# Altium schematic symbol library MainLibrary.SchLib: 167 symbols (part 2 of 2)
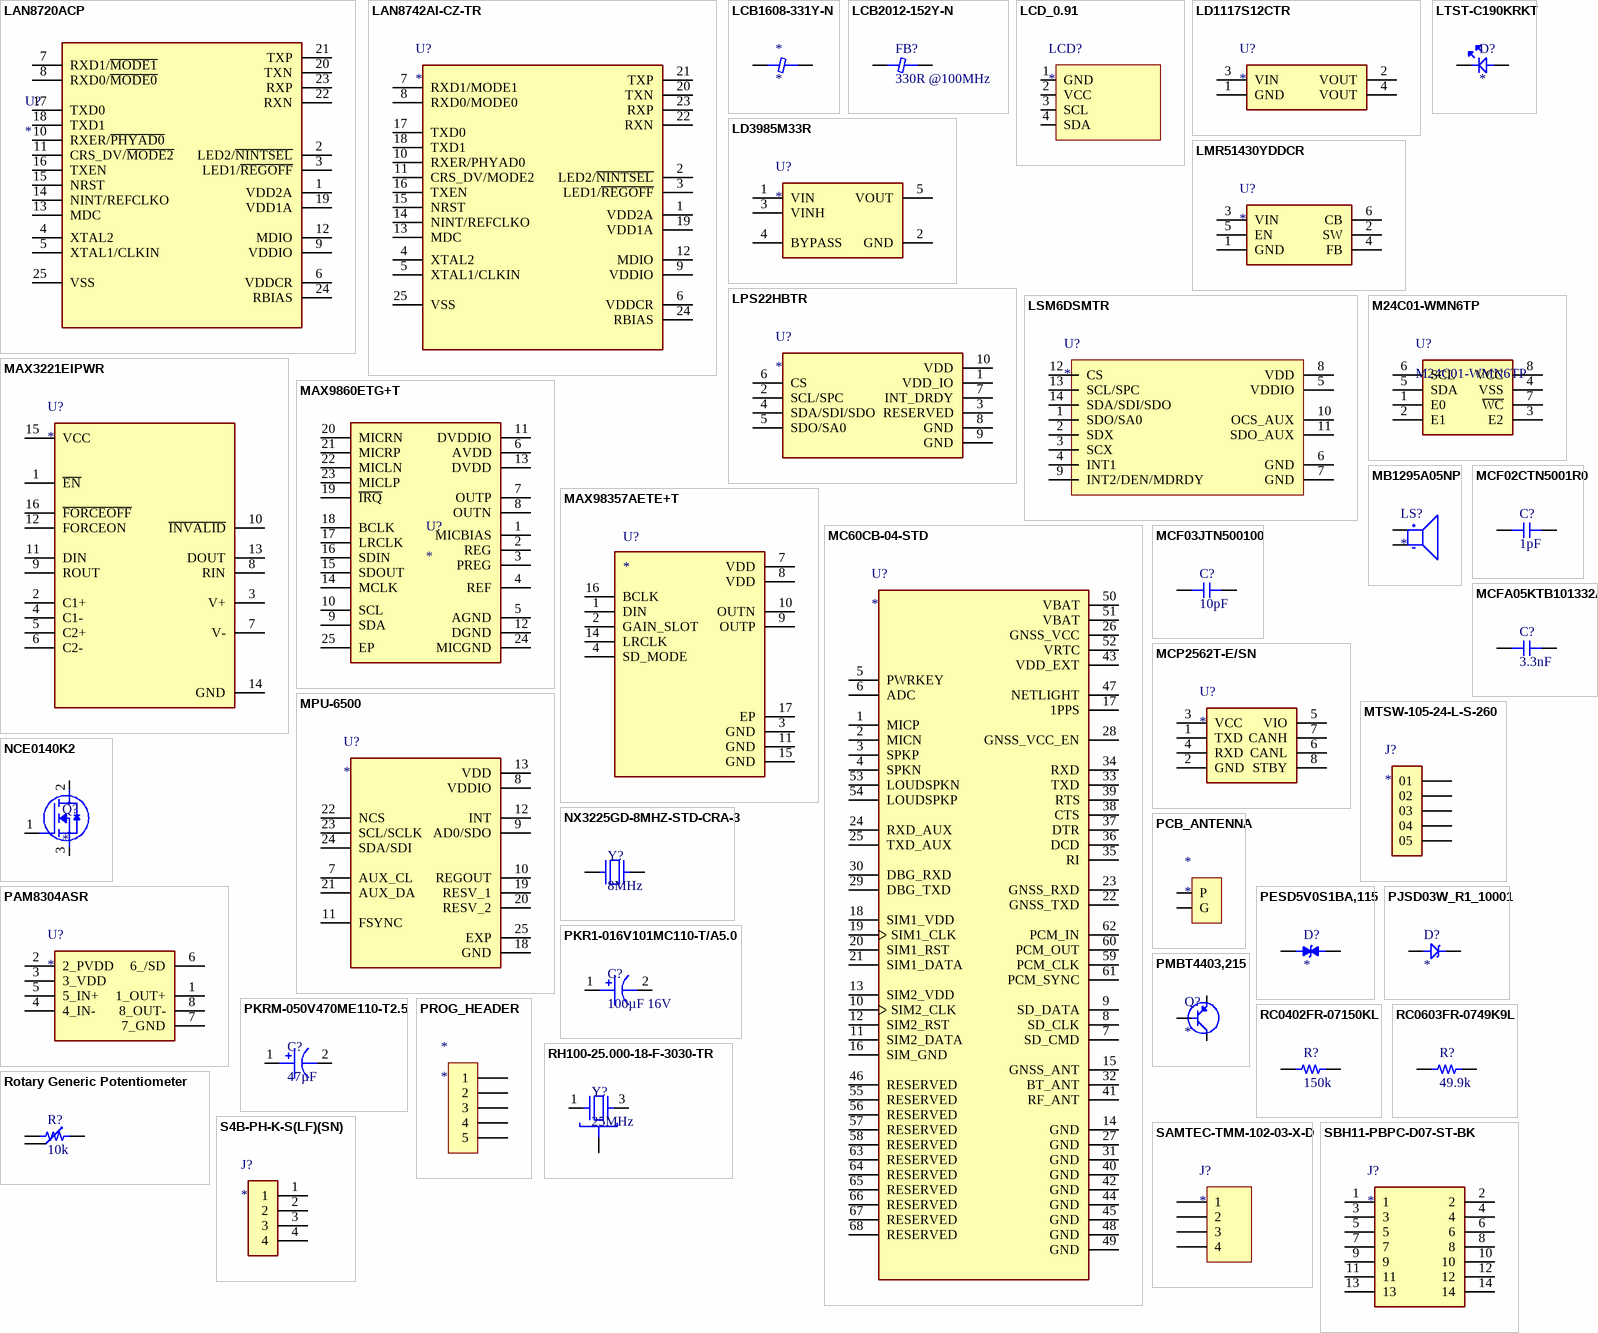
[diagram p5: symbols LAN8720ACP to SBH11-PBPC-D07-ST-BK]

## RC0603FR-0749K9L
designator R?, comment 49.9k
ES.(1608) 0603 49.9K Ohms 1% 1/10W 100PPM SMT
footprint 0603_RES
pins: 1, 2

## RH100-25.000-18-F-3030-TR
designator Y?, comment 25MHz
25 MHz 30ppm Crystal 18pF 60 Ohms 4-SMD, No Lead (3.20mm x 2.50mm); MF: Raltron Electronics; MP: RH100-25.000-18-F-3030-TR; SnapEDA_Link: https://www.snapeda.com/parts/RH100-25.000-18-F-3030-TR/Raltron+Electronics/view-part/?ref=snap; Package: None; Value: *; Check_prices: https://www.snapeda.com/parts/RH100-25.000-18-F-3030-TR/Raltron+Electronics/view-part/?ref=eda
footprint XTAL_RH100-25.000-18-F-3030-TR
pins: 1, 2 GND (power), 3, 4 GND (power)

## Rotary Generic Potentiometer
designator R?, comment 10k
10k DIP
footprint POT_ROTARY
pins: 1, 2, 3

## S4B-PH-K-S(LF)(SN)
designator J?
Connector Header Through Hole, Right Angle 4 position 0.079 _2.00mm_; MP: S4B-PH-K-S_LF__SN_; MF: JST Sales; Price: None; Package: None; Value: *; Availability: Unavailable; SnapEDA_Link: https://www.snapeda.com/parts/S4B-PH-K-S%28LF%29%28SN%29/JST%20Sales%20America%20Inc./view-part/591324/?ref=snap
footprint JST_S4B-PH-K-S(LF)(SN)
pins: 1, 2, 3, 4

## SAMTEC-TMM-102-03-X-D
designator J?
CONN HEADER VERT 4POS 2MM; MP: SAMTEC-TMM-102-03-X-D; Package: None; Price: None; Value: *; Availability: Unavailable
footprint SAMTEC-TMM-102-03-X-D
pins: 1, 2, 3, 4

## SBH11-PBPC-D07-ST-BK
designator J?
Connector Header Through Hole 14 position 0.100 (2.54mm); MP: SBH11-PBPC-D07-ST-BK; MF: Sullins Connector; Value: *; Check_prices: https://www.snapeda.com/parts/SBH11-PBPC-D07-ST-BK/Sullins%20Connector%20Solutions/view-part/229418/?ref=eda; Availability: Warning; Price: None; Package: None; Purchase-URL: https://pricing.snapeda.com/search/part/SBH11-PBPC-D07-ST-BK/?ref=eda; SnapEDA_Link: https://www.snapeda.com/parts/SBH11-PBPC-D07-ST-BK/Sullins%20Connector%20Solutions/view-part/229418/?ref=snap
footprint SULLINS_SBH11-PBPC-D07-ST-BK
pins: 1, 2, 3, 4, 5, 6, 7, 8, 9, 10, 11, 12, 13, 14

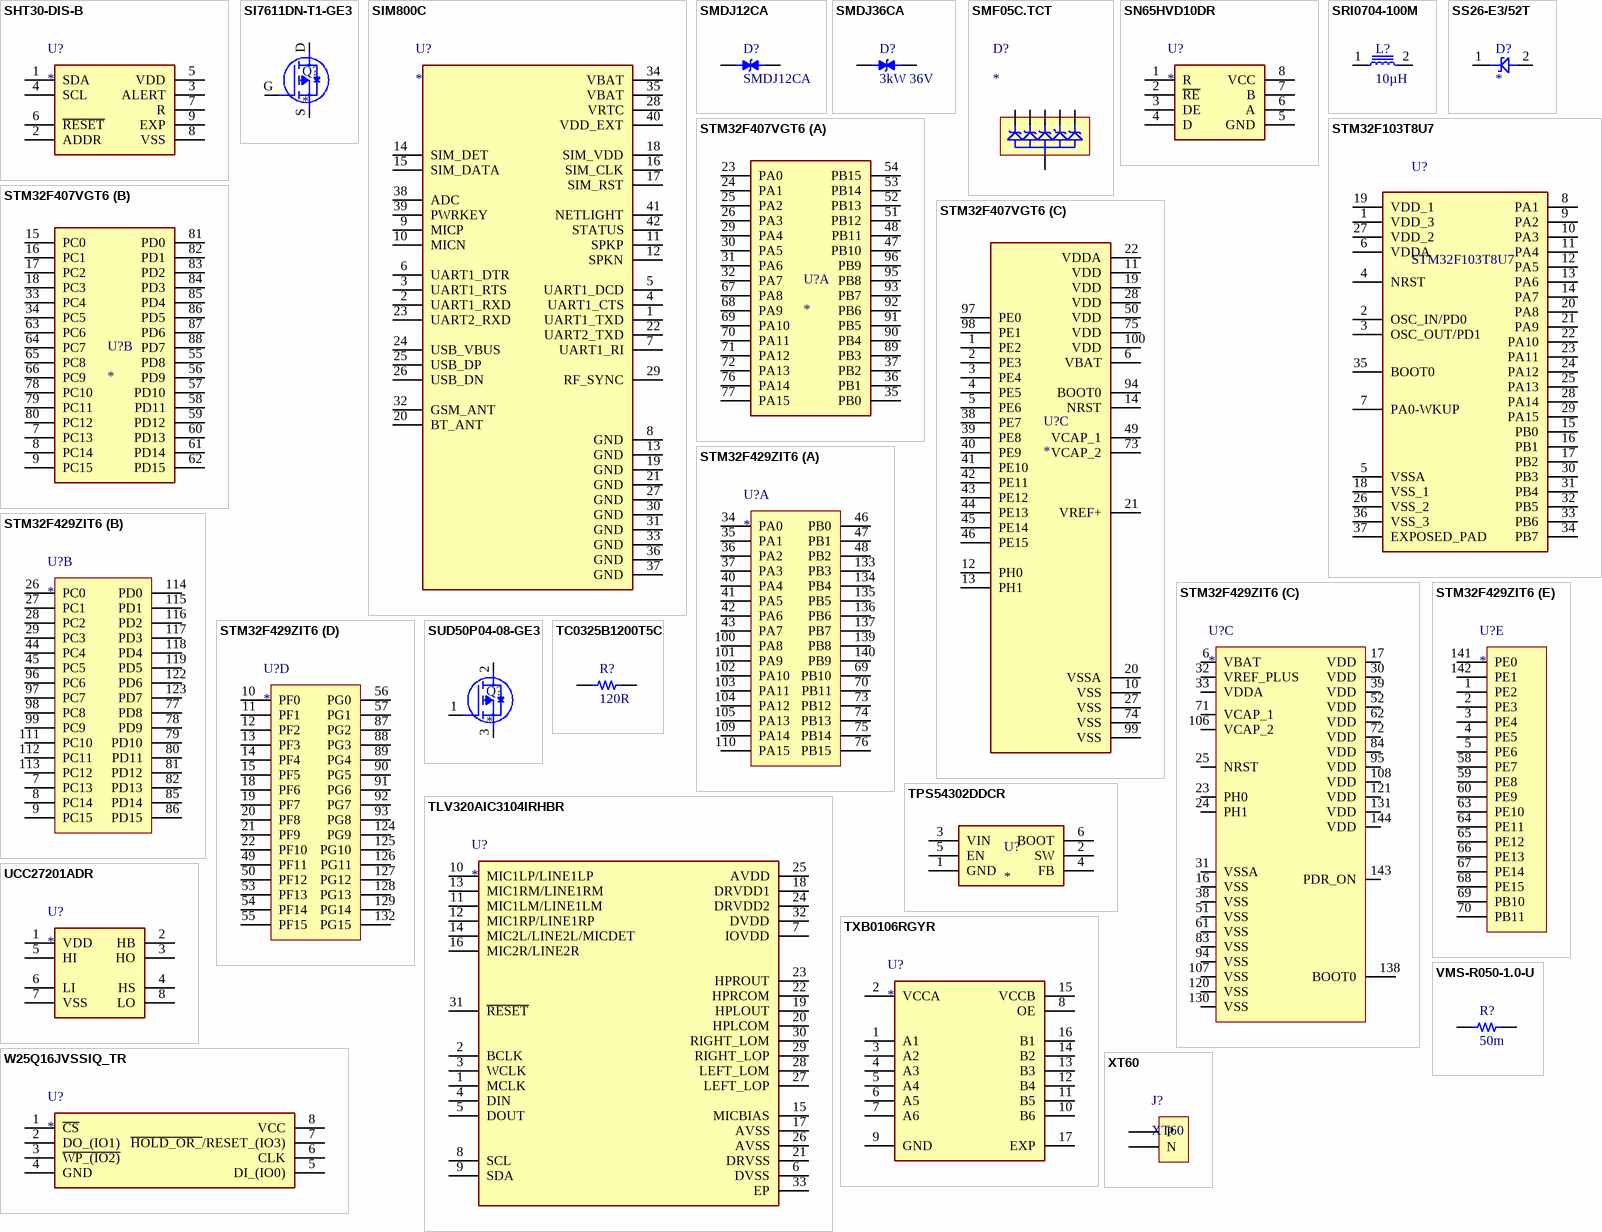
[diagram p4: symbols SHT30-DIS-B to XT60]

## SHT30-DIS-B
designator U?
SHT3x Series 5.5 V Â±3 %RH 0 to 100% Temperature and Humidity Sensor - DFN-8; MP: SHT30-DIS-B; Package: None; Price: None; Availability: Unavailable; Value: *
footprint DFN250X250X100-9N
pins: 1 SDA, 2 ADDR, 3 ALERT, 4 SCL, 5 VDD (power), 6 ~{RESET}, 7 R, 8 VSS, 9 EXP

## SI7611DN-T1-GE3
designator Q?
MOSFET DIS.18A 40V P-CH PPAK1212-8 TRENCHFET SMT; Manufacturer_Name: Vishay; Manufacturer_Part_Number: SUD50P04-08-GE3; Datasheet Link: https://www.vishay.com/docs/65594/sud50p04-08.pdf; Height: 2.38mm; Mouser Part Number: 781-SUD50P04-08-GE3; Mouser Price/Stock: https://www.mouser.co.uk/ProductDetail/Vishay-Semiconductors/SUD50P04-08-GE3?qs=WX95TUc1y56BTDQkv3VCeQ%3D%3D; Arrow Part Number: SUD50P04-08-GE3; Arrow Price/Stock: https://www.arrow.com/en/products/sud50p04-08-ge3/vishay?region=europe
footprint POWERPAK-1212
pins: D, G, S

## SIM800C
designator U?
Module: GSM/Bluetooth; GPRS; 2G; 1800MHz, 900MHz; 85.6kbps; SMD; MP: SIM800C; MF: Simcom; Check_prices: https://www.snapeda.com/parts/SIM800C/SIMcom+Wireless+solutions+Co.%252CLtd/view-part/?ref=eda; Value: *; Availability: In Stock; Price: None; Package: None; SnapEDA_Link: https://www.snapeda.com/parts/SIM800C/SIMcom+Wireless+solutions+Co.%252CLtd/view-part/?ref=snap
footprint LCC110P1570X1760X250-42N
pins: 1 UART1_TXD, 2 UART1_RXD, 3 UART1_RTS, 4 UART1_CTS, 5 UART1_DCD, 6 UART1_DTR, 7 UART1_RI, 8 GND (power), 9 MICP, 10 MICN, 11 SPKP, 12 SPKN, 13 GND (power), 14 SIM_DET, 15 SIM_DATA, 16 SIM_CLK, 17 SIM_RST, 18 SIM_VDD, 19 GND (power), 20 BT_ANT, 21 GND (power), 22 UART2_TXD, 23 UART2_RXD, 24 USB_VBUS, 25 USB_DP, 26 USB_DN, 27 GND (power), 28 VRTC (power), 29 RF_SYNC, 30 GND (power), 31 GND (power), 32 GSM_ANT, 33 GND (power), 34 VBAT (power), 35 VBAT (power), 36 GND (power), 37 GND (power), 38 ADC, 39 PWRKEY, 40 VDD_EXT (power), 41 NETLIGHT, 42 STATUS

## SMDJ12CA
designator D?
150.8A 14.7V 12V SMC ESD and Surge Protection (TVS/ESD) ROHS; MP: SMDJ36CA; Price: None; Availability: Unavailable; Value: *; Package: None
footprint DIOM6859X262N
pins: 1, 2

## SMDJ36CA
designator D?, comment 3kW 36V
DIODE TVS 3000W 36V DO214AB (SMC) SMT; MP: SMDJ36CA; Price: None; Availability: Unavailable; Value: *; Package: None
footprint DIOM6859X262N
pins: 1, 2

## SMF05C.TCT
designator D?
12.5V Clamp 8A (8/20Âµs) Ipp Tvs Diode Surface Mount SC-70-6; MP: SMF05C.TCT; MF: Semtech; Check_prices: https://www.snapeda.com/parts/SMF05C.TCT/Semtech+Corporation/view-part/?ref=eda; Value: *; Availability: In Stock; Price: None; Package: SC-70-6 Semtech; SnapEDA_Link: https://www.snapeda.com/parts/SMF05C.TCT/Semtech+Corporation/view-part/?ref=snap; Purchase-URL: https://pricing.snapeda.com/search/part/SMF05C.TCT/?ref=eda
footprint SOT95P280X125-6N
pins: 1 C1, 2 A, 3 C2, 4 C3, 5 C4, 6 C5

## SN65HVD10DR
designator U?
3.3V RS485 TRANSRECEIVER IC; Manufacturer_Name: Texas Instruments; Manufacturer_Part_Number: SN65HVD10DR; Datasheet Link: http://www.ti.com/lit/gpn/sn65hvd10; Height: 1.75mm; Mouser Part Number: 595-SN65HVD10DR; Mouser Price/Stock: https://www.mouser.co.uk/ProductDetail/Texas-Instruments/SN65HVD10DR?qs=QViXGNcIEAviyhAwS0yoXQ%3D%3D; Arrow Part Number: SN65HVD10DR; Arrow Price/Stock: https://www.arrow.com/en/products/sn65hvd10dr/texas-instruments?region=nac
footprint SOIC127P600X175-8N
pins: 1 R, 2 ~{RE}, 3 DE, 4 D, 5 GND, 6 A, 7 B, 8 VCC

## SRI0704-100M
designator L?, comment 10µH
INDUCTOR POWER 10UH 7.3X7.3X4.5MM SMD
footprint INDP7474X45N (Precision Wire Wound Inductor, 2-Leads, Body 7,45x7,45mm, IPC Medium Density)
pins: 1, 2

## SS26-E3/52T
designator D?
DIODE SCHOTTKY 2A 60V DO214AA SMB VISHAY; Manufacturer_Part_Number: SS26-E3/52T; Datasheet Link: https://componentsearchengine.com/Datasheets/2/SS26-E3_52T.pdf; Height: 2.44mm; Manufacturer_Name: Vishay; Mouser Part Number: 625-SS26-E3; Mouser Price/Stock: https://www.mouser.co.uk/ProductDetail/Vishay-General-Semiconductor/SS26-E3-52T?qs=x2jpVgRnAtNToatHaCRUvw%3D%3D; Arrow Part Number: SS26-E3/52T; Arrow Price/Stock: https://www.arrow.com/en/products/ss26-e352t/vishay?region=europe
footprint DIOM5436X244N
pins: 1 K, 2 A

## STM32F103T8U7
designator U?
STM32F103T8U7, 32 bit ARM Cortex M3 Microcontroller 72MHz 64 kB Flash, 20 kB RAM, USB CAN I2C 36-Pin VFQFPN; Manufacturer_Name: STMicroelectronics; Geometry.Height: 1mm; Manufacturer_Part_Number: STM32F103T8U7; Arrow Part Number: STM32F103T8U7; Arrow Price/Stock: https://www.arrow.com/en/products/stm32f103t8u7/stmicroelectronics?region=europe; Datasheet Link: http://www.st.com/st-web-ui/static/active/en/resource/technical/document/datasheet/CD00161566.pdf
footprint QFN50P600X600X100-37N-D
pins: 1 VDD_3 (power), 2 OSC_IN/PD0, 3 OSC_OUT/PD1, 4 NRST, 5 VSSA, 6 VDDA (power), 7 PA0-WKUP, 8 PA1, 9 PA2, 10 PA3, 11 PA4, 12 PA5, 13 PA6, 14 PA7, 15 PB0, 16 PB1, 17 PB2, 18 VSS_1, 19 VDD_1 (power), 20 PA8, 21 PA9, 22 PA10, 23 PA11, 24 PA12, 25 PA13, 26 VSS_2, 27 VDD_2 (power), 28 PA14, 29 PA15, 30 PB3, 31 PB4, 32 PB5, 33 PB6, 34 PB7, 35 BOOT0, 36 VSS_3, 37 EXPOSED_PAD

## STM32F407VGT6
designator U?
STM32 Series 32-bit 1 MB Flash 192 kB RAM ARM Based Microcontroller - LQFP-100; MP: STM32F407VGT6; Price: None; Value: *; Package: None; Availability: Unavailable
footprint QFP50P1600X1600X160-100N
part A pins: 23 PA0, 24 PA1, 25 PA2, 26 PA3, 29 PA4, 30 PA5, 31 PA6, 32 PA7, 35 PB0, 36 PB1, 37 PB2, 47 PB10, 48 PB11, 51 PB12, 52 PB13, 53 PB14, 54 PB15, 67 PA8, 68 PA9, 69 PA10, 70 PA11, 71 PA12, 72 PA13, 76 PA14, 77 PA15, 89 PB3, 90 PB4, 91 PB5, 92 PB6, 93 PB7, 95 PB8, 96 PB9
part B pins: 7 PC13, 8 PC14, 9 PC15, 15 PC0, 16 PC1, 17 PC2, 18 PC3, 33 PC4, 34 PC5, 55 PD8, 56 PD9, 57 PD10, 58 PD11, 59 PD12, 60 PD13, 61 PD14, 62 PD15, 63 PC6, 64 PC7, 65 PC8, 66 PC9, 78 PC10, 79 PC11, 80 PC12, 81 PD0, 82 PD1, 83 PD2, 84 PD3, 85 PD4, 86 PD5, 87 PD6, 88 PD7
part C pins: 1 PE2, 2 PE3, 3 PE4, 4 PE5, 5 PE6, 6 VBAT (power), 10 VSS (power), 11 VDD (power), 12 PH0, 13 PH1, 14 NRST, 19 VDD (power), 20 VSSA (power), 21 VREF+ (power), 22 VDDA (power), 27 VSS (power), 28 VDD (power), 38 PE7, 39 PE8, 40 PE9, 41 PE10, 42 PE11, 43 PE12, 44 PE13, 45 PE14, 46 PE15, 49 VCAP_1, 50 VDD (power), 73 VCAP_2, 74 VSS (power), 75 VDD (power), 94 BOOT0, 97 PE0, 98 PE1, 99 VSS (power), 100 VDD (power)

## STM32F429ZIT6
designator U?
ARM® Cortex®-M4 STM32F4 Microcontroller IC 32-Bit 180MHz 2MB _2M x 8_ FLASH 144-LQFP _20x20_; MP: STM32F429ZIT6; MF: STMicroelectronics; SnapEDA_Link: https://www.snapeda.com/parts/STM32F429ZIT6/STMicroelectronics/view-part/49811/?ref=snap; Availability: Unavailable; Value: *; Price: None; Package: LQFP-144 STMicroelectronics
footprint QFP50P2200X2200X160-144N
part A pins: 34 PA0, 35 PA1, 36 PA2, 37 PA3, 40 PA4, 41 PA5, 42 PA6, 43 PA7, 46 PB0, 47 PB1, 48 PB2, 69 PB10, 70 PB11, 73 PB12, 74 PB13, 75 PB14, 76 PB15, 100 PA8, 101 PA9, 102 PA10, 103 PA11, 104 PA12, 105 PA13, 109 PA14, 110 PA15, 133 PB3, 134 PB4, 135 PB5, 136 PB6, 137 PB7, 139 PB8, 140 PB9
part B pins: 7 PC13, 8 PC14, 9 PC15, 26 PC0, 27 PC1, 28 PC2, 29 PC3, 44 PC4, 45 PC5, 77 PD8, 78 PD9, 79 PD10, 80 PD11, 81 PD12, 82 PD13, 85 PD14, 86 PD15, 96 PC6, 97 PC7, 98 PC8, 99 PC9, 111 PC10, 112 PC11, 113 PC12, 114 PD0, 115 PD1, 116 PD2, 117 PD3, 118 PD4, 119 PD5, 122 PD6, 123 PD7
part C pins: 6 VBAT, 16 VSS, 17 VDD, 23 PH0, 24 PH1, 25 NRST, 30 VDD, 31 VSSA, 32 VREF_PLUS, 33 VDDA, 38 VSS, 39 VDD, 51 VSS, 52 VDD, 61 VSS, 62 VDD, 71 VCAP_1, 72 VDD, 83 VSS, 84 VDD, 94 VSS, 95 VDD, 106 VCAP_2, 107 VSS, 108 VDD, 120 VSS, 121 VDD, 130 VSS, 131 VDD, 138 BOOT0, 143 PDR_ON, 144 VDD
part D pins: 10 PF0, 11 PF1, 12 PF2, 13 PF3, 14 PF4, 15 PF5, 18 PF6, 19 PF7, 20 PF8, 21 PF9, 22 PF10, 49 PF11, 50 PF12, 53 PF13, 54 PF14, 55 PF15, 56 PG0, 57 PG1, 87 PG2, 88 PG3, 89 PG4, 90 PG5, 91 PG6, 92 PG7, 93 PG8, 124 PG9, 125 PG10, 126 PG11, 127 PG12, 128 PG13, 129 PG14, 132 PG15
part E pins: 1 PE2, 2 PE3, 3 PE4, 4 PE5, 5 PE6, 58 PE7, 59 PE8, 60 PE9, 63 PE10, 64 PE11, 65 PE12, 66 PE13, 67 PE14, 68 PE15, 69 PB10, 70 PB11, 141 PE0, 142 PE1

## SUD50P04-08-GE3
designator Q?
MOSFET DIS.50A 40V P-CH TO252(DPAK) SMT; Manufacturer_Name: Vishay; Manufacturer_Part_Number: SUD50P04-08-GE3; Datasheet Link: https://www.vishay.com/docs/65594/sud50p04-08.pdf; Height: 2.38mm; Mouser Part Number: 781-SUD50P04-08-GE3; Mouser Price/Stock: https://www.mouser.co.uk/ProductDetail/Vishay-Semiconductors/SUD50P04-08-GE3?qs=WX95TUc1y56BTDQkv3VCeQ%3D%3D; Arrow Part Number: SUD50P04-08-GE3; Arrow Price/Stock: https://www.arrow.com/en/products/sud50p04-08-ge3/vishay?region=europe
footprint TO-252
pins: 1 G, 2 D, 3 S

## TC0325B1200T5C
designator R?, comment 120R
RES.(1608) 0603 120 Ohms 0.1% 1/16W 25PPM
footprint 0603_RES
pins: 1, 2

## TLV320AIC3104IRHBR
designator U?
Stereo Audio Interface 24 bit , Serial 32-VQFN 5x5; MF: Texas Instruments; MP: TLV320AIC3104IRHBR; Value: *; Price: None; Package: VQFN-32 Texas Instruments; SnapEDA_Link: https://www.snapeda.com/parts/TLV320AIC3104IRHBR/Texas%20Instruments/view-part/48290/?ref=snap; Availability: Unavailable
footprint QFN50P500X500X100-33N
pins: 1 MCLK, 2 BCLK, 3 WCLK, 4 DIN, 5 DOUT, 6 DVSS, 7 IOVDD, 8 SCL, 9 SDA, 10 MIC1LP/LINE1LP, 11 MIC1LM/LINE1LM, 12 MIC1RP/LINE1RP, 13 MIC1RM/LINE1RM, 14 MIC2L/LINE2L/MICDET, 15 MICBIAS, 16 MIC2R/LINE2R, 17 AVSS, 18 DRVDD1, 19 HPLOUT, 20 HPLCOM, 21 DRVSS, 22 HPRCOM, 23 HPROUT, 24 DRVDD2, 25 AVDD, 26 AVSS, 27 LEFT_LOP, 28 LEFT_LOM, 29 RIGHT_LOP, 30 RIGHT_LOM, 31 ~{RESET}, 32 DVDD, 33 EP

## TPS54302DDCR
designator U?
BUCK CONVERTER +28V 3A; Manufacturer_Name: Texas Instruments; Manufacturer_Part_Number: TPS54302DDCR; Datasheet Link: http://www.ti.com/general/docs/suppproductinfo.tsp?distId=10&gotoUrl=http%3A%2F%2Fwww.ti.com%2Flit%2Fgpn%2Ftps54302; Height: 1.1mm; Mouser Part Number: 595-TPS54302DDCR; Mouser Price/Stock: https://www.mouser.co.uk/ProductDetail/Texas-Instruments/TPS54302DDCR?qs=zEmsApcVOkUXM7UP0GSO2g%3D%3D; Arrow Part Number: TPS54302DDCR; Arrow Price/Stock: https://www.arrow.com/en/products/tps54302ddcr/texas-instruments?region=nac
footprint SOT95P280X110-6N
pins: 1 GND, 2 SW, 3 VIN, 4 FB, 5 EN, 6 BOOT

## TXB0106RGYR
designator U?
6-Bit Bidirectional Voltage-Level Translator with Auto Direction Sensing and +/-15-kV ESD Protect 16-VQFN -40 to 85; MP: TXB0106RGYR; MF: Texas Instruments; Purchase-URL: https://pricing.snapeda.com/search/part/TXB0106RGYR/?ref=eda; SnapEDA_Link: https://www.snapeda.com/parts/TXB0106RGYR/Texas%20Instruments/view-part/214847/?ref=snap; Price: None; Package: VQFN-16 Texas Instruments; Value: *; Availability: Good
footprint QFN50P400X350X100-17N
pins: 1 A1, 2 VCCA (power), 3 A2, 4 A3, 5 A4, 6 A5, 7 A6, 8 OE, 9 GND (power), 10 B6, 11 B5, 12 B4, 13 B3, 14 B2, 15 VCCB (power), 16 B1, 17 EXP

## UCC27201ADR
designator U?
3-A, 120-V half bridge gate driver with 8-V UVLO and negative voltage handling; MP: UCC27201ADR; MF: Texas Instruments; Price: None; SnapEDA_Link: https://www.snapeda.com/parts/UCC27201ADR/Texas+Instruments/view-part/?ref=snap; Purchase-URL: https://pricing.snapeda.com/search/part/UCC27201ADR/?ref=eda; Availability: In Stock; Check_prices: https://www.snapeda.com/parts/UCC27201ADR/Texas+Instruments/view-part/?ref=eda; Value: *; Package: SOIC-8 Texas Instruments
footprint SOIC127P599X175-8N
pins: 1 VDD, 2 HB, 3 HO, 4 HS, 5 HI, 6 LI, 7 VSS, 8 LO

## VMS-R050-1.0-U
designator R?, comment 50m
RES.SHUNT (6432) 2512 50m Ohms 1% 4W AUTO SMT; Manufacturer_Name: Isabellenhutte
footprint BVTIR00310
pins: 1, 2

## W25Q16JVSSIQ_TR
designator U?
FLASH 16MB SPI; Manufacturer_Name: Winbond; Manufacturer_Part_Number: W25Q16JVSSIQ TR; Datasheet Link: https://www.winbond.com/resource-files/w25q16jv%20spi%20revg%2003222018%20plus.pdf; Height: 2.16mm; Mouser Part Number: 454-W25Q16JVSSIQTR; Mouser Price/Stock: https://www.mouser.co.uk/ProductDetail/Winbond/W25Q16JVSSIQ-TR?qs=qSfuJ%252Bfl%2Fd6oXlsNm7Svfg%3D%3D; Arrow Part Number: W25Q16JVSSIQ TR; Arrow Price/Stock: https://www.arrow.com/en/products/w25q16jvssiqtr/winbond-electronics?region=nac
footprint SOIC127P790X216-8N
pins: 1 ~{CS}, 2 DO_(IO1), 3 ~{WP_(IO2)}, 4 GND, 5 DI_(IO0), 6 CLK, 7 ~{HOLD_OR_}/RESET_(IO3), 8 VCC

## XT60
designator J?
FEMALE PCB CONNECTOR
footprint XT30
pins: 1 P, 2 N